# EAGLE library part CONNECTOR_9 (library SnapEDA)
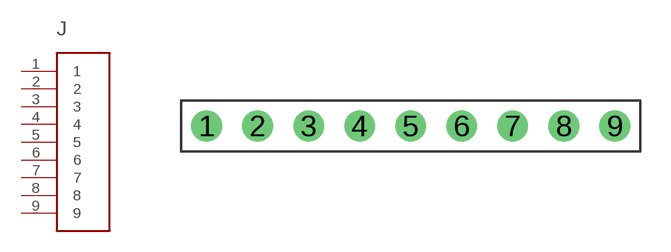
[diagram p3: symbol with the pads of 68000-109HLF-NO-SQUARE; footprint 68000-109HLF-NO-SQUARE]

Designator prefix J

## CONNECTOR_9  [68000-109HLF-NO-SQUARE]
1  1
2  2
3  3
4  4
5  5
6  6
7  7
8  8
9  9

## Footprint 68000-109HLF-NO-SQUARE (pad centres in mm)
drill 1.016: 1 0,0; 2 2.54,0; 3 5.08,0; 4 7.62,0; 5 10.16,0; 6 12.7,0; 7 15.24,0; 8 17.78,0; 9 20.32,0